# Altium footprint library QFN.PcbLib: 84 footprints (part 1 of 6)
Each footprint in its own frame and in the unit in brackets; x right, y up, seen from the top. Pads: shape width x height; smd on the part's side, far side on the other; paste and mask are expansions set on the pad; w line width, h text height; cw(c..) or ccw(c..) is an arc to the next point about the centre after c.
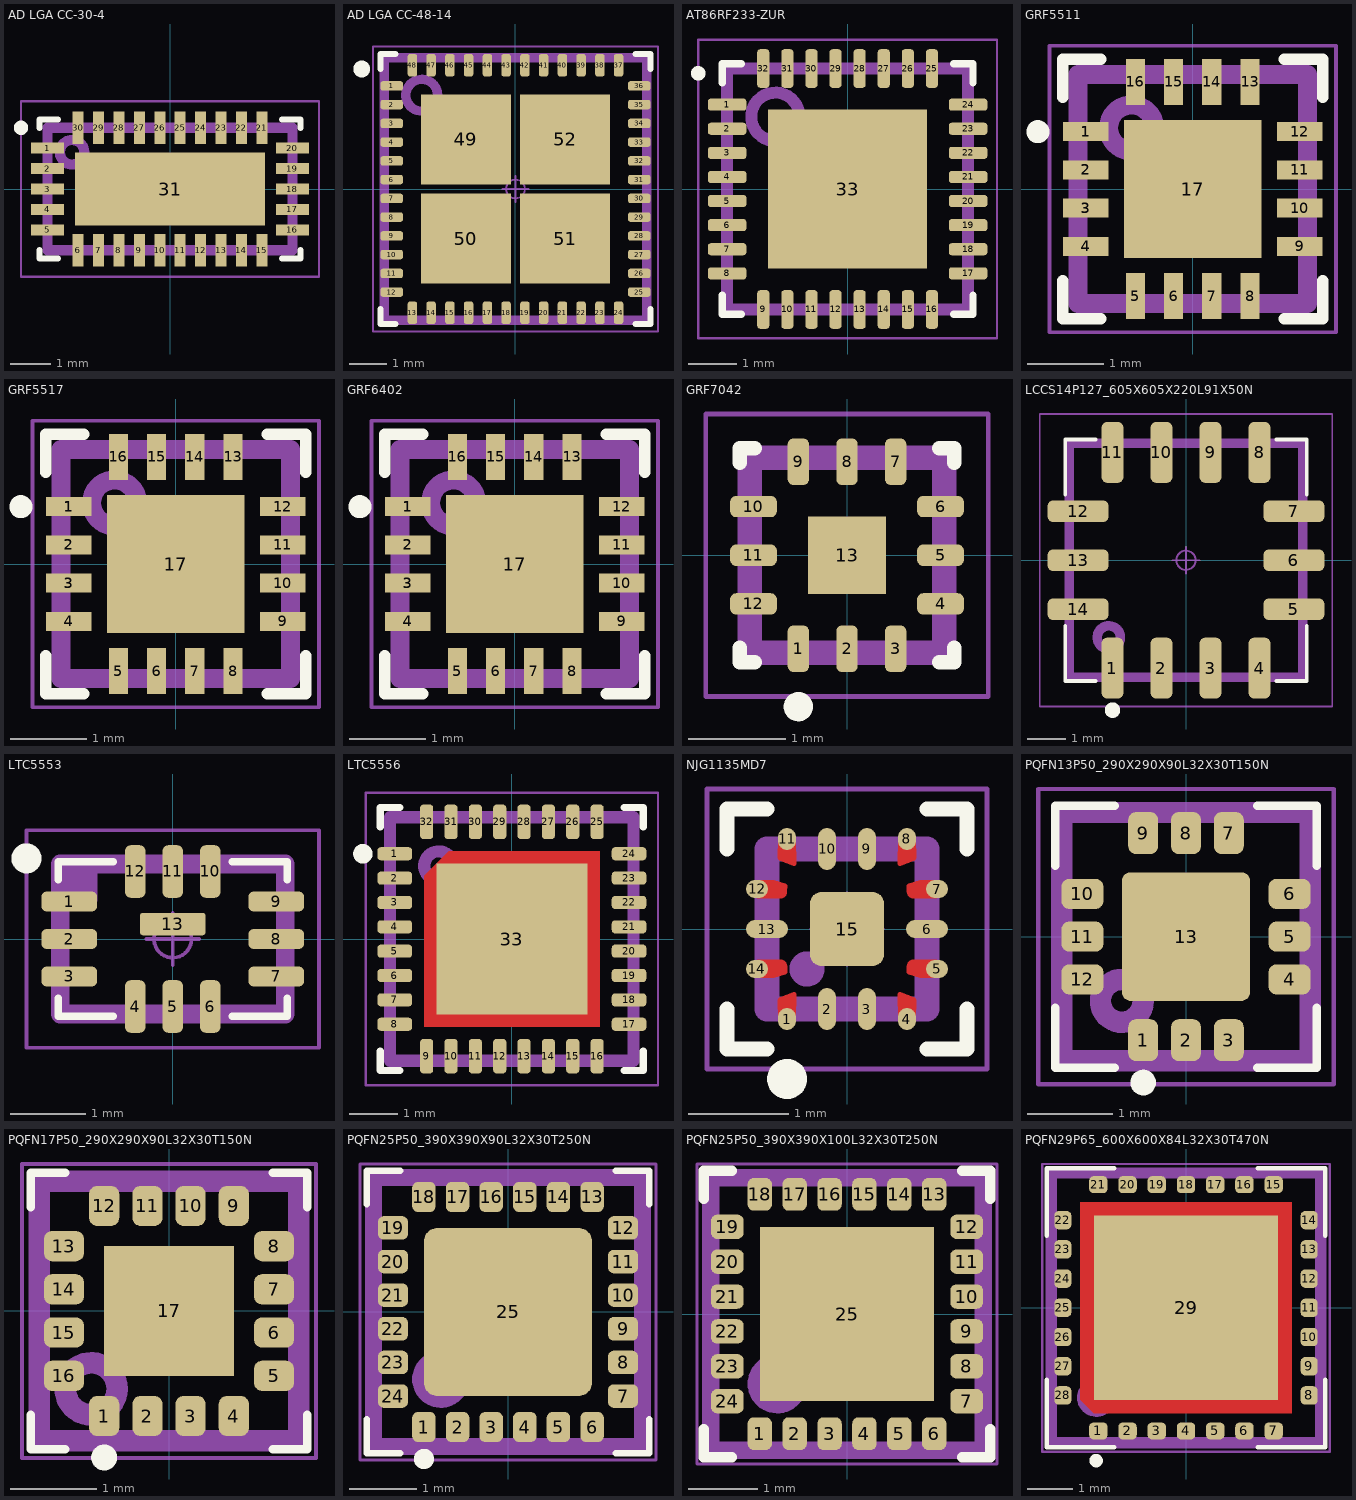
[diagram p0: the footprints below, top view; thin cyan lines are the x and y axes]

## AD LGA CC-30-4 [mm] "Analog Devices 30-Terminal Land Grid Array Package [LGA] (CC-30-4)"
height 0.95
pads (31):
  rect 0.8x0.27 smd: 1(-3,1) 2(-3,0.5) 3(-3,0) 4(-3,-0.5) 5(-3,-1) 16(3,-1) 17(3,-0.5) 18(3,0) 19(3,0.5) 20(3,1)
  rect 0.27x0.8 smd: 6(-2.25,-1.5) 7(-1.75,-1.5) 8(-1.25,-1.5) 9(-0.75,-1.5) 10(-0.25,-1.5) 11(0.25,-1.5) 12(0.75,-1.5) 13(1.25,-1.5) 14(1.75,-1.5) 15(2.25,-1.5) 21(2.25,1.5) 22(1.75,1.5) 23(1.25,1.5) 24(0.75,1.5) 25(0.25,1.5) 26(-0.25,1.5) 27(-0.75,1.5) 28(-1.25,1.5) 29(-1.75,1.5) 30(-2.25,1.5)
  rect 4.65x1.8 smd: 31(0,0)
Top Overlay:
  circle w0.25: c-3.65,1.5 r0.05
  lines w0.15: -3.2,-1.5 -3.2,-1.7 -2.75,-1.7 ; -3.2,1.5 -3.2,1.7 -2.75,1.7 ; 2.75,-1.7 3.2,-1.7 3.2,-1.5 ; 2.75,1.7 3.2,1.7 3.2,1.5
Top Assembly:
  circle w0.25: c-2.4,0.9 r0.3
  lines w0.25: -3,-1.5 3,-1.5 3,1.5 -3,1.5 -3,-1.5
  text ".Designator" at -3.378,-0.339 h1.5
Top Courtyard:
  circle w0.05: c0,0 r0.25
  lines w0.05: -0.35,0 0.35,0 ; 0,-0.35 0,0.35 ; -3.65,-2.15 3.65,-2.15 3.65,2.15 -3.65,2.15 -3.65,-2.15
3D body "AD LGA CC-30-4.STEP": height 0.89, standoff 0, extent -3,-1.5 3,1.5

## AD LGA CC-48-14 [mm] "48-Terminal Land Grid Array [LGA] (CC-48-14)"
height 0.95
pads (52):
  rrect50% 0.6x0.25 smd: 1(-3.3,2.75) 2(-3.3,2.25) 3(-3.3,1.75) 4(-3.3,1.25) 5(-3.3,0.75) 6(-3.3,0.25) 7(-3.3,-0.25) 8(-3.3,-0.75) 9(-3.3,-1.25) 10(-3.3,-1.75) 11(-3.3,-2.25) 12(-3.3,-2.75) 25(3.3,-2.75) 26(3.3,-2.25) 27(3.3,-1.75) 28(3.3,-1.25) 29(3.3,-0.75) 30(3.3,-0.25) 31(3.3,0.25) 32(3.3,0.75) 33(3.3,1.25) 34(3.3,1.75) 35(3.3,2.25) 36(3.3,2.75)
  rrect50% 0.25x0.6 smd: 13(-2.75,-3.3) 14(-2.25,-3.3) 15(-1.75,-3.3) 16(-1.25,-3.3) 17(-0.75,-3.3) 18(-0.25,-3.3) 19(0.25,-3.3) 20(0.75,-3.3) 21(1.25,-3.3) 22(1.75,-3.3) 23(2.25,-3.3) 24(2.75,-3.3) 37(2.75,3.3) 38(2.25,3.3) 39(1.75,3.3) 40(1.25,3.3) 41(0.75,3.3) 42(0.25,3.3) 43(-0.25,3.3) 44(-0.75,3.3) 45(-1.25,3.3) 46(-1.75,3.3) 47(-2.25,3.3) 48(-2.75,3.3)
  rect 2.4x2.4 smd: 49(-1.325,1.325) 50(-1.325,-1.325) 51(1.325,-1.325) 52(1.325,1.325)
Top Overlay:
  circle w0.25: c-4.1,3.2 r0.1
  lines w0.15: -3.6,-3.2 -3.6,-3.6 -3.2,-3.6 ; -3.6,3.2 -3.6,3.6 -3.2,3.6 ; 3.2,-3.6 3.6,-3.6 3.6,-3.2 ; 3.2,3.6 3.6,3.6 3.6,3.2
Top Assembly:
  circle w0.25: c-2.5,2.5 r0.424
  lines w0.25: -3.5,-3.5 3.5,-3.5 3.5,3.5 -3.5,3.5 -3.5,-3.5
  text ".Designator" at -3.378,-0.339 h1.5
Top Courtyard:
  circle w0.05: c0,0 r0.25
  lines w0.05: -0.35,0 0.35,0 ; 0,-0.35 0,0.35 ; -3.8,-3.8 3.8,-3.8 3.8,3.8 -3.8,3.8 -3.8,-3.8
3D body "AD LGA CC-48-14.STEP": height 0.95, standoff 0, extent -3.5,-3.5 3.5,3.5

## AT86RF233-ZUR [mm] "QFN, 32-Leads, Body 5.00x5.00mm, Pitch 0.50mm, Thermal Pad 3.30x3.30mm, IPC Medium Density"
height 1
pads (33):
  rrect50% 0.8x0.25 smd: 1(-2.5,1.75) 2(-2.5,1.25) 3(-2.5,0.75) 4(-2.5,0.25) 5(-2.5,-0.25) 6(-2.5,-0.75) 7(-2.5,-1.25) 8(-2.5,-1.75) 17(2.5,-1.75) 18(2.5,-1.25) 19(2.5,-0.75) 20(2.5,-0.25) 21(2.5,0.25) 22(2.5,0.75) 23(2.5,1.25) 24(2.5,1.75)
  rrect50% 0.25x0.8 smd: 9(-1.75,-2.5) 10(-1.25,-2.5) 11(-0.75,-2.5) 12(-0.25,-2.5) 13(0.25,-2.5) 14(0.75,-2.5) 15(1.25,-2.5) 16(1.75,-2.5) 25(1.75,2.5) 26(1.25,2.5) 27(0.75,2.5) 28(0.25,2.5) 29(-0.25,2.5) 30(-0.75,2.5) 31(-1.25,2.5) 32(-1.75,2.5)
  rect 3.3x3.3 smd: 33(0,0)
Top Overlay:
  circle w0.25: c-3.1,2.4 r0.025
  lines w0.15: -2.6,-2.2 -2.6,-2.6 -2.2,-2.6 ; -2.6,2.2 -2.6,2.6 -2.2,2.6 ; 2.2,-2.6 2.6,-2.6 2.6,-2.2 ; 2.2,2.6 2.6,2.6 2.6,2.2
Top Assembly:
  circle w0.25: c-1.5,1.5 r0.5
  lines w0.25: -2.5,-2.5 2.5,-2.5 2.5,2.5 -2.5,2.5 -2.5,-2.5
  text ".Designator" at -3.378,-0.339 h1.5
Top Courtyard:
  circle w0.05: c0,0 r0.25
  lines w0.05: -0.35,0 0.35,0 ; 0,-0.35 0,0.35 ; -3.1,-3.1 3.1,-3.1 3.1,3.1 -3.1,3.1 -3.1,-3.1
3D body "AT86RF233-ZUR.STEP": height 1, standoff 0, extent -2.55,-2.55 2.55,2.55

## GRF5511 [mm] "Guerrilla-RF 3.0 mm QFN-16"
height 0.9
pads (21):
  rect 0.6x0.25 smd: 1(-1.4,0.75) 1(-1.4,0.75) 2(-1.4,0.25) 2(-1.4,0.25) 3(-1.4,-0.25) 3(-1.4,-0.25) 4(-1.4,-0.75) 4(-1.4,-0.75) 9(1.4,-0.75) 10(1.4,-0.25) 11(1.4,0.25) 12(1.4,0.75)
  rect 0.25x0.6 smd: 5(-0.75,-1.4) 6(-0.25,-1.4) 7(0.25,-1.4) 8(0.75,-1.4) 13(0.75,1.4) 14(0.25,1.4) 15(-0.25,1.4) 16(-0.75,1.4)
  rect 1.8x1.8 smd: 17(0,0)
Top Overlay:
  circle w0.25: c-2.025,0.75 r0.025
  lines w0.15: -1.7,-1.2 -1.7,-1.7 -1.2,-1.7 ; -1.7,1.2 -1.7,1.7 -1.2,1.7 ; 1.2,-1.7 1.7,-1.7 1.7,-1.2 ; 1.2,1.7 1.7,1.7 1.7,1.2
Top Assembly:
  circle w0.25: c-0.8,0.8 r0.3
  lines w0.25: -1.5,-1.5 1.5,-1.5 1.5,1.5 -1.5,1.5 -1.5,-1.5
  text ".Designator" at -3.378,-0.339 h1.5
Top Courtyard:
  circle w0.05: c0,0 r0.25
  lines w0.05: -0.35,0 0.35,0 ; 0,-0.35 0,0.35 ; -1.875,-1.875 1.875,-1.875 1.875,1.875 -1.875,1.875 -1.875,-1.875
3D body "GRF5511.STEP": height 0.9, standoff 0, extent -1.55,-1.55 1.55,1.55

## GRF5517 [mm] "Guerrilla-RF 3.0 mm QFN-16"
height 0.9
pads (21):
  rect 0.6x0.25 smd: 1(-1.4,0.75) 1(-1.4,0.75) 2(-1.4,0.25) 2(-1.4,0.25) 3(-1.4,-0.25) 3(-1.4,-0.25) 4(-1.4,-0.75) 4(-1.4,-0.75) 9(1.4,-0.75) 10(1.4,-0.25) 11(1.4,0.25) 12(1.4,0.75)
  rect 0.25x0.6 smd: 5(-0.75,-1.4) 6(-0.25,-1.4) 7(0.25,-1.4) 8(0.75,-1.4) 13(0.75,1.4) 14(0.25,1.4) 15(-0.25,1.4) 16(-0.75,1.4)
  rect 1.8x1.8 smd: 17(0,0)
Top Overlay:
  circle w0.25: c-2.025,0.75 r0.025
  lines w0.15: -1.7,-1.2 -1.7,-1.7 -1.2,-1.7 ; -1.7,1.2 -1.7,1.7 -1.2,1.7 ; 1.2,-1.7 1.7,-1.7 1.7,-1.2 ; 1.2,1.7 1.7,1.7 1.7,1.2
Top Assembly:
  circle w0.25: c-0.8,0.8 r0.3
  lines w0.25: -1.5,-1.5 1.5,-1.5 1.5,1.5 -1.5,1.5 -1.5,-1.5
  text ".Designator" at -3.378,-0.339 h1.5
Top Courtyard:
  circle w0.05: c0,0 r0.25
  lines w0.05: -0.35,0 0.35,0 ; 0,-0.35 0,0.35 ; -1.875,-1.875 1.875,-1.875 1.875,1.875 -1.875,1.875 -1.875,-1.875
3D body "GRF5517.STEP": height 0.9, standoff 0, extent -1.55,-1.55 1.55,1.55

## GRF6402 [mm] "Guerrilla-RF 3.0 mm QFN-16"
height 0.9
pads (21):
  rect 0.6x0.25 smd: 1(-1.4,0.75) 1(-1.4,0.75) 2(-1.4,0.25) 2(-1.4,0.25) 3(-1.4,-0.25) 3(-1.4,-0.25) 4(-1.4,-0.75) 4(-1.4,-0.75) 9(1.4,-0.75) 10(1.4,-0.25) 11(1.4,0.25) 12(1.4,0.75)
  rect 0.25x0.6 smd: 5(-0.75,-1.4) 6(-0.25,-1.4) 7(0.25,-1.4) 8(0.75,-1.4) 13(0.75,1.4) 14(0.25,1.4) 15(-0.25,1.4) 16(-0.75,1.4)
  rect 1.8x1.8 smd: 17(0,0)
Top Overlay:
  circle w0.25: c-2.025,0.75 r0.025
  lines w0.15: -1.7,-1.2 -1.7,-1.7 -1.2,-1.7 ; -1.7,1.2 -1.7,1.7 -1.2,1.7 ; 1.2,-1.7 1.7,-1.7 1.7,-1.2 ; 1.2,1.7 1.7,1.7 1.7,1.2
Top Assembly:
  circle w0.25: c-0.8,0.8 r0.3
  lines w0.25: -1.5,-1.5 -1.5,1.5 1.5,1.5 1.5,-1.5 -1.5,-1.5
  text ".Designator" at -3.378,-0.339 h1.5
Top Courtyard:
  circle w0.05: c0,0 r0.25
  lines w0.05: -0.35,0 0.35,0 ; 0,-0.35 0,0.35 ; -1.875,-1.875 -1.875,1.875 1.875,1.875 1.875,-1.875 -1.875,-1.875
3D body "GRF6402.STEP": height 0.9, standoff 0, extent -1.55,-1.55 1.55,1.55

## GRF7042 [mm] "Quad Flat No-Lead (QFN with Tab), 0.50 mm pitch; square, 3 pin X 3 pin, 2.00 mm L X 2.00 mm W X 0.50 mm H body"
height 0.5
pads (13):
  rrect55% 0.22x0.48 smd: 1(-0.5,-0.96) 2(0,-0.96) 3(0.5,-0.96) 7(0.5,0.96) 8(0,0.96) 9(-0.5,0.96)
  rrect55% 0.48x0.22 smd: 4(0.96,-0.5) 5(0.96,0) 6(0.96,0.5) 10(-0.96,0.5) 11(-0.96,0) 12(-0.96,-0.5)
  rect 0.8x0.8 smd: 13(0,0)
Top Overlay:
  circle w0.15: c-0.5,-1.555 r0.075
  lines w0.15: -1.1,-0.95 -1.1,-1.1 -0.95,-1.1 ; -1.1,0.95 -1.1,1.1 -0.95,1.1 ; 0.95,-1.1 1.1,-1.1 1.1,-0.95 ; 0.95,1.1 1.1,1.1 1.1,0.95
Top Assembly:
  lines w0.25: -1,-1 1,-1 1,1 -1,1 -1,-1
  text ".Designator" at -3.378,1.661 h1.5
Top Courtyard:
  circle w0.05: c0,0 r0.25
  lines w0.05: -0.35,0 0.35,0 ; 0,-0.35 0,0.35 ; -1.45,-1.45 -1.45,1.45 1.45,1.45 1.45,-1.45 -1.45,-1.45
3D body "QFN13P50_200X200X50L30X20T80.STEP": height 0.5, standoff 0, extent -1.05,-1.05 1.05,1.05

## LCCS14P127_605X605X220L91X50N [mm] "Leadless Chip Carrier (LCC), 1.27 mm pitch; square, 4 pin X 3 pin, 6.05 mm L X 6.05 mm W X 2.20 mm H body"
height 2.2
pads (14):
  rrect50% 0.56x1.58 smd: 1(-1.905,-2.795) 2(-0.635,-2.795) 3(0.635,-2.795) 4(1.905,-2.795) 8(1.905,2.795) 9(0.635,2.795) 10(-0.635,2.795) 11(-1.905,2.795)
  rrect50% 1.58x0.56 smd: 5(2.795,-1.27) 6(2.795,0) 7(2.795,1.27) 12(-2.795,1.27) 13(-2.795,0) 14(-2.795,-1.27)
Top Overlay:
  circle w0.2: c-1.905,-3.885 r0.1
  lines w0.1: -3.13,-1.7 -3.13,-3.13 -2.34,-3.13 ; -3.13,1.7 -3.13,3.13 -2.34,3.13 ; 2.34,-3.13 3.13,-3.13 3.13,-1.7 ; 2.34,3.13 3.13,3.13 3.13,1.7
Top Assembly:
  circle w0.25: c-2,-2 r0.3
  lines w0.25: -3.03,-3.03 3.03,-3.03 3.03,3.03 -3.03,3.03 -3.03,-3.03
  text ".Designator" at -2.3,-0.3 h1.5
Top Courtyard:
  circle w0.05: c0,0 r0.25
  lines w0.05: -0.35,0 0.35,0 ; 0,-0.35 0,0.35 ; -3.79,-3.79 3.79,-3.79 3.79,3.79 -3.79,3.79 -3.79,-3.79
3D body "LCCS14P127_605X605X220L91X50.STEP": height 2.2, standoff 0, extent -3.025,-3.025 3.025,3.025

## LTC5553 [mm] "Quad Flat No-Lead (QFN), 0.50 mm pitch; rect., 3 pin X 3 pin, 3.00 mm L X 2.00 mm W X 0.80 mm H body"
height 0.8
pads (13):
  rrect52% 0.74x0.27 smd: 1(-1.38,0.5) 2(-1.38,0) 3(-1.38,-0.5) 7(1.38,-0.5) 8(1.38,0) 9(1.38,0.5)
  rrect52% 0.27x0.7 smd: 4(-0.5,-0.9) 5(0,-0.9) 6(0.5,-0.9) 10(0.5,0.9) 11(0,0.9) 12(-0.5,0.9)
  rrect23% 0.87x0.3 smd: 13(0,0.2)
Top Overlay:
  circle w0.2: c-1.95,1.075 r0.1
  lines w0.1: -1.53,-0.79 -1.53,-1.03 -0.79,-1.03 ; -1.53,0.79 -1.53,1.03 -0.79,1.03 ; 0.79,-1.03 1.53,-1.03 1.53,-0.79 ; 0.79,1.03 1.53,1.03 1.53,0.79
Top Assembly:
  rectangle: -1.5,0.5 -1,1
  lines w0.25: -1.5,-1 -1.5,1 1.5,1 1.5,-1 -1.5,-1
  text ".Designator" at -1.3,-0.4 h1.5
Top Courtyard:
  circle w0.05: c0,0 r0.25
  lines w0.05: -0.35,0 0.35,0 ; 0,-0.35 0,0.35 ; -1.95,-1.45 -1.95,1.45 1.95,1.45 1.95,-1.45 -1.95,-1.45
3D body "LTC5553.STEP": height 0.8, standoff 0, extent -1.55,-1.05 1.55,1.05

## LTC5556 [mm]
height 0.8
pads (33):
  rrect52% 0.71x0.27 smd: 1(-2.405,1.75) 2(-2.405,1.25) 3(-2.405,0.75) 4(-2.405,0.25) 5(-2.405,-0.25) 6(-2.405,-0.75) 7(-2.405,-1.25) 8(-2.405,-1.75) 17(2.405,-1.75) 18(2.405,-1.25) 19(2.405,-0.75) 20(2.405,-0.25) 21(2.405,0.25) 22(2.405,0.75) 23(2.405,1.25) 24(2.405,1.75)
  rrect52% 0.27x0.71 smd: 9(-1.75,-2.405) 10(-1.25,-2.405) 11(-0.75,-2.405) 12(-0.25,-2.405) 13(0.25,-2.405) 14(0.75,-2.405) 15(1.25,-2.405) 16(1.75,-2.405) 25(1.75,2.405) 26(1.25,2.405) 27(0.75,2.405) 28(0.25,2.405) 29(-0.25,2.405) 30(-0.75,2.405) 31(-1.25,2.405) 32(-1.75,2.405)
  rect 3.1x3.1 smd paste-3.1 mask-3.1: 33(0,0)
Top Layer:
  region: -1.8,-1.8 -1.8,1.3 -1.3,1.8 1.8,1.8 1.8,-1.8
Top Overlay:
  circle w0.2: c-3.06,1.75 r0.1
  lines w0.15: -2.7,-2.3 -2.7,-2.7 -2.3,-2.7 ; -2.7,2.3 -2.7,2.7 -2.3,2.7 ; 2.3,-2.7 2.7,-2.7 2.7,-2.3 ; 2.3,2.7 2.7,2.7 2.7,2.3
Top Paste:
  region: -1.49,-1.49 -1.49,-0.18 -0.18,-0.18 -0.18,-1.49
  region: 0.18,-1.49 0.18,-0.18 1.49,-0.18 1.49,-1.49
  region: -1.49,0.18 -1.49,1.49 -0.18,1.49 -0.18,0.18
  region: 0.18,0.18 0.18,1.49 1.49,1.49 1.49,0.18
Top Solder:
  region: -1.85,-1.85 -1.85,1.35 -1.35,1.85 1.85,1.85 1.85,-1.85
Top Assembly:
  circle w0.25: c-1.5,1.5 r0.3
  lines w0.25: -2.5,-2.5 2.5,-2.5 2.5,2.5 -2.5,2.5 -2.5,-2.5
  text ".Designator" at -2.3,-0.3 h1.5
Top Courtyard:
  circle w0.05: c0,0 r0.25
  lines w0.05: -0.35,0 0.35,0 ; 0,-0.35 0,0.35 ; -3,-3 3,-3 3,3 -3,3 -3,-3
3D body "QFN33P50_500X500X90L40X25T370.STEP": height 0.9, standoff 0, extent -2.55,-2.55 2.55,2.55

## NJG1135MD7 [mm]
height 0.4
pads (15):
  oval 0.18x0.22 smd: 1(-0.6,-0.9) 4(0.6,-0.9) 8(0.6,0.9) 11(-0.6,0.9)
  oval 0.18x0.42 smd: 2(-0.2,-0.8) 3(0.2,-0.8) 9(0.2,0.8) 10(-0.2,0.8)
  oval 0.22x0.18 smd: 5(0.9,-0.4) 7(0.9,0.4) 12(-0.9,0.4) 14(-0.9,-0.4)
  oval 0.42x0.18 smd: 6(0.8,0) 13(-0.8,0)
  rrect30% 0.74x0.74 smd: 15(0,0)
Top Layer:
  region: -0.51,0.9 -0.69,0.9 -0.69,0.714 -0.69,0.709 -0.687,0.699 -0.681,0.69 -0.672,0.683 -0.667,0.682 -0.538,0.634 -0.533,0.633 -0.523,0.634 -0.515,0.64 -0.51,0.649 -0.51,0.654
  region: 0.51,0.9 0.69,0.9 0.69,0.714 0.69,0.709 0.687,0.699 0.681,0.69 0.672,0.683 0.667,0.682 0.538,0.634 0.533,0.633 0.523,0.634 0.515,0.64 0.51,0.649 0.51,0.654
  region: -0.51,-0.9 -0.69,-0.9 -0.69,-0.714 -0.69,-0.709 -0.687,-0.699 -0.681,-0.69 -0.672,-0.683 -0.667,-0.682 -0.538,-0.634 -0.533,-0.633 -0.523,-0.634 -0.515,-0.64 -0.51,-0.649 -0.51,-0.654
  region: 0.51,-0.9 0.69,-0.9 0.69,-0.714 0.69,-0.709 0.687,-0.699 0.681,-0.69 0.672,-0.683 0.667,-0.682 0.538,-0.634 0.533,-0.633 0.523,-0.634 0.515,-0.64 0.51,-0.649 0.51,-0.654
  region: 0.9,0.31 0.9,0.49 0.725,0.49 0.613,0.454 0.61,0.453 0.605,0.45 0.602,0.445 0.6,0.439 0.6,0.436 0.6,0.37 0.6,0.358 0.609,0.336 0.626,0.319 0.648,0.31 0.66,0.31
  region: -0.9,-0.31 -0.9,-0.49 -0.725,-0.49 -0.613,-0.454 -0.61,-0.453 -0.605,-0.45 -0.602,-0.445 -0.6,-0.439 -0.6,-0.436 -0.6,-0.37 -0.6,-0.358 -0.609,-0.336 -0.626,-0.319 -0.648,-0.31 -0.66,-0.31
  region: 0.9,-0.31 0.9,-0.49 0.725,-0.49 0.613,-0.454 0.61,-0.453 0.605,-0.45 0.602,-0.445 0.6,-0.439 0.6,-0.436 0.6,-0.37 0.6,-0.358 0.609,-0.336 0.626,-0.319 0.648,-0.31 0.66,-0.31
  region: -0.9,0.31 -0.9,0.49 -0.725,0.49 -0.613,0.454 -0.61,0.453 -0.605,0.45 -0.602,0.445 -0.6,0.439 -0.6,0.436 -0.6,0.37 -0.6,0.358 -0.609,0.336 -0.626,0.319 -0.648,0.31 -0.66,0.31
Top Overlay:
  circle w0.2: c-0.6,-1.5 r0.1
  lines w0.15: -1.2,-0.8 -1.2,-1.2 -0.8,-1.2 ; -1.2,0.8 -1.2,1.2 -0.8,1.2 ; 0.8,-1.2 1.2,-1.2 1.2,-0.8 ; 0.8,1.2 1.2,1.2 1.2,0.8
Top Assembly:
  circle w0.25: c-0.4,-0.4 r0.05
  lines w0.25: -0.8,-0.8 -0.8,0.8 0.8,0.8 0.8,-0.8 -0.8,-0.8
  text ".Designator" at -2.1,1.2 h1.5
Top Courtyard:
  circle w0.05: c0,0 r0.25
  lines w0.05: -0.35,0 0.35,0 ; 0,-0.35 0,0.35 ; -1.4,-1.4 1.4,-1.4 1.4,1.4 -1.4,1.4 -1.4,-1.4
3D body "NJG1135MD7.STEP": height 0.4, standoff 0, extent -0.85,-0.85 0.85,0.85

## PQFN13P50_290X290X90L32X30T150N [mm] "Pullback Quad Flat No-Lead (PQFN with Tab), 0.50 mm pitch; square, 3 pin X 3 pin, 2.90 mm L X 2.90 mm W X 0.90 mm H body"
height 0.9
pads (13):
  rrect51% 0.35x0.49 smd: 1(-0.5,-1.21) 2(0,-1.21) 3(0.5,-1.21) 7(0.5,1.21) 8(0,1.21) 9(-0.5,1.21)
  rrect51% 0.49x0.35 smd: 4(1.21,-0.5) 5(1.21,0) 6(1.21,0.5) 10(-1.21,0.5) 11(-1.21,0) 12(-1.21,-0.5)
  rrect13% 1.5x1.5 smd paste-1.5: 13(0,0)
Top Overlay:
  circle w0.15: c-0.5,-1.705 r0.075
  lines w0.1: -1.53,-0.83 -1.53,-1.53 -0.83,-1.53 ; -1.53,0.83 -1.53,1.53 -0.83,1.53 ; 0.83,-1.53 1.53,-1.53 1.53,-0.83 ; 0.83,1.53 1.53,1.53 1.53,0.83
Top Paste:
  region: 0.64,-0.64 0.11,-0.64 0.11,-0.11 0.64,-0.11
  region: 0.64,0.11 0.11,0.11 0.11,0.64 0.64,0.64
  region: -0.11,-0.64 -0.64,-0.64 -0.64,-0.11 -0.11,-0.11
  region: -0.11,0.11 -0.64,0.11 -0.64,0.64 -0.11,0.64
Top Assembly:
  circle w0.25: c-0.75,-0.75 r0.25
  lines w0.25: -1.45,-1.45 -1.45,1.45 1.45,1.45 1.45,-1.45 -1.45,-1.45
  text ".Designator" at -1.8,1.9 h1.5
Top Courtyard:
  circle w0.05: c0,0 r0.25
  lines w0.05: -0.35,0 0.35,0 ; 0,-0.35 0,0.35 ; -1.725,-1.725 -1.725,1.725 1.725,1.725 1.725,-1.725 -1.725,-1.725
3D body "PQFN13P50_290X290X90L32X30T150.STEP": height 0.9, standoff 0, extent -1.45,-1.45 1.45,1.45

## PQFN17P50_290X290X90L32X30T150N [mm] "Pullback Quad Flat No-Lead (PQFN with Tab), 0.50 mm pitch; square, 4 pin X 4 pin, 2.90 mm L X 2.90 mm W X 0.90 mm H body"
height 0.9
pads (17):
  rrect51% 0.35x0.46 smd: 1(-0.75,-1.215) 2(-0.25,-1.215) 3(0.25,-1.215) 4(0.75,-1.215) 9(0.75,1.215) 10(0.25,1.215) 11(-0.25,1.215) 12(-0.75,1.215)
  rrect51% 0.46x0.35 smd: 5(1.215,-0.75) 6(1.215,-0.25) 7(1.215,0.25) 8(1.215,0.75) 13(-1.215,0.75) 14(-1.215,0.25) 15(-1.215,-0.25) 16(-1.215,-0.75)
  rect 1.5x1.5 smd paste-1.5: 17(0,0)
Top Overlay:
  circle w0.15: c-0.75,-1.695 r0.075
  lines w0.1: -1.6,-1.2 -1.6,-1.6 -1.2,-1.6 ; -1.6,1.2 -1.6,1.6 -1.2,1.6 ; 1.2,-1.6 1.6,-1.6 1.6,-1.2 ; 1.2,1.6 1.6,1.6 1.6,1.2
Top Paste:
  region: -0.11,0.11 -0.64,0.11 -0.64,0.64 -0.11,0.64
  region: -0.11,-0.64 -0.64,-0.64 -0.64,-0.11 -0.11,-0.11
  region: 0.64,0.11 0.11,0.11 0.11,0.64 0.64,0.64
  region: 0.64,-0.64 0.11,-0.64 0.11,-0.11 0.64,-0.11
Top Assembly:
  circle w0.25: c-0.9,-0.9 r0.3
  lines w0.25: -1.5,-1.5 1.5,-1.5 1.5,1.5 -1.5,1.5 -1.5,-1.5
  text ".Designator" at -1.3,-0.2 h1.5
Top Courtyard:
  circle w0.05: c0,0 r0.25
  lines w0.05: -0.35,0 0.35,0 ; 0,-0.35 0,0.35 ; -1.7,-1.7 1.7,-1.7 1.7,1.7 -1.7,1.7 -1.7,-1.7
3D body "PQFN17P50_290X290X90L32X30T150.STEP": height 0.9, standoff 0, extent -1.45,-1.45 1.45,1.45

## PQFN25P50_390X390X90L32X30T250N [mm] "Pullback Quad Flat No-Lead (PQFN with Tab), 0.50 mm pitch; square, 6 pin X 6 pin, 3.90 mm L X 3.90 mm W X 0.90 mm H body"
height 0.9
pads (25):
  rrect51% 0.35x0.45 smd: 1(-1.25,-1.71) 2(-0.75,-1.71) 3(-0.25,-1.71) 4(0.25,-1.71) 5(0.75,-1.71) 6(1.25,-1.71) 13(1.25,1.71) 14(0.75,1.71) 15(0.25,1.71) 16(-0.25,1.71) 17(-0.75,1.71) 18(-1.25,1.71)
  rrect51% 0.45x0.35 smd: 7(1.71,-1.25) 8(1.71,-0.75) 9(1.71,-0.25) 10(1.71,0.25) 11(1.71,0.75) 12(1.71,1.25) 19(-1.71,1.25) 20(-1.71,0.75) 21(-1.71,0.25) 22(-1.71,-0.25) 23(-1.71,-0.75) 24(-1.71,-1.25)
  rrect16% 2.5x2.5 smd paste-2.5: 25(0,0)
Top Overlay:
  circle w0.15: c-1.25,-2.185 r0.075
  lines w0.1: -2.1,-1.6 -2.1,-2.1 -1.6,-2.1 ; -2.1,1.6 -2.1,2.1 -1.6,2.1 ; 1.6,-2.1 2.1,-2.1 2.1,-1.6 ; 1.6,2.1 2.1,2.1 2.1,1.6
Top Paste:
  region: 1.065,-1.065 0.185,-1.065 0.185,-0.185 1.065,-0.185
  region: 1.065,0.185 0.185,0.185 0.185,1.065 1.065,1.065
  region: -0.185,-1.065 -1.065,-1.065 -1.065,-0.185 -0.185,-0.185
  region: -0.185,0.185 -1.065,0.185 -1.065,1.065 -0.185,1.065
Top Assembly:
  circle w0.25: c-1,-1 r0.3
  lines w0.25: -2,-2 -2,2 2,2 2,-2 -2,-2
  text ".Designator" at -1.7,-0.4 h1.5
Top Courtyard:
  circle w0.05: c0,0 r0.25
  lines w0.05: -0.35,0 0.35,0 ; 0,-0.35 0,0.35 ; -2.2,-2.2 -2.2,2.2 2.2,2.2 2.2,-2.2 -2.2,-2.2
3D body "PQFN25P50_390X390X90L32X30T250.STEP": height 0.9, standoff 0, extent -1.95,-1.95 1.95,1.95

## PQFN25P50_390X390X100L32X30T250N [mm] "Pullback Quad Flat No-Lead (PQFN with Tab), 0.50 mm pitch; square, 6 pin X 6 pin, 3.90 mm L X 3.90 mm W X 1.00 mm H body"
height 1
pads (25):
  rrect51% 0.35x0.47 smd: 1(-1.25,-1.715) 2(-0.75,-1.715) 3(-0.25,-1.715) 4(0.25,-1.715) 5(0.75,-1.715) 6(1.25,-1.715) 13(1.25,1.715) 14(0.75,1.715) 15(0.25,1.715) 16(-0.25,1.715) 17(-0.75,1.715) 18(-1.25,1.715)
  rrect51% 0.47x0.35 smd: 7(1.715,-1.25) 8(1.715,-0.75) 9(1.715,-0.25) 10(1.715,0.25) 11(1.715,0.75) 12(1.715,1.25) 19(-1.715,1.25) 20(-1.715,0.75) 21(-1.715,0.25) 22(-1.715,-0.25) 23(-1.715,-0.75) 24(-1.715,-1.25)
  rect 2.5x2.5 smd paste-2.5: 25(0,0)
Top Overlay:
  lines w0.15: -2.05,-1.65 -2.05,-2.05 -1.65,-2.05 ; -2.05,1.65 -2.05,2.05 -1.65,2.05 ; 1.65,-2.05 2.05,-2.05 2.05,-1.65 ; 1.65,2.05 2.05,2.05 2.05,1.65
Top Paste:
  region: -0.185,0.185 -1.065,0.185 -1.065,1.065 -0.185,1.065
  region: -0.185,-1.065 -1.065,-1.065 -1.065,-0.185 -0.185,-0.185
  region: 1.065,0.185 0.185,0.185 0.185,1.065 1.065,1.065
  region: 1.065,-1.065 0.185,-1.065 0.185,-0.185 1.065,-0.185
Top Assembly:
  circle w0.25: c-1,-1 r0.3
  lines w0.25: -1.95,-1.95 1.95,-1.95 1.95,1.95 -1.95,1.95 -1.95,-1.95
  text ".Designator" at 0,0 h1.5
Top Courtyard:
  circle w0.05: c0,0 r0.25
  lines w0.05: -0.35,0 0.35,0 ; 0,-0.35 0,0.35 ; -2.15,-2.15 2.15,-2.15 2.15,2.15 -2.15,2.15 -2.15,-2.15
3D body "PQFN25P50_390X390X100L32X30T250.STEP": height 1, standoff 0, extent -1.95,-1.95 1.95,1.95

## PQFN29P65_600X600X84L32X30T470N [mm] "Pullback Quad Flat No-Lead (PQFN with Tab), 0.65 mm pitch; square, 7 pin X 7 pin, 6.00 mm L X 6.00 mm W X 0.845 mm H body"
height 0.845
pads (29):
  rrect53% 0.41x0.38 smd: 1(-1.95,-2.74) 2(-1.3,-2.74) 3(-0.65,-2.74) 4(0,-2.74) 5(0.65,-2.74) 6(1.3,-2.74) 7(1.95,-2.74) 15(1.95,2.74) 16(1.3,2.74) 17(0.65,2.74) 18(0,2.74) 19(-0.65,2.74) 20(-1.3,2.74) 21(-1.95,2.74)
  rrect53% 0.38x0.41 smd: 8(2.74,-1.95) 9(2.74,-1.3) 10(2.74,-0.65) 11(2.74,0) 12(2.74,0.65) 13(2.74,1.3) 14(2.74,1.95) 22(-2.74,1.95) 23(-2.74,1.3) 24(-2.74,0.65) 25(-2.74,0) 26(-2.74,-0.65) 27(-2.74,-1.3) 28(-2.74,-1.95)
  rect 4.1x4.1 smd paste-4.1 mask-4.1: 29(0,0)
Top Layer:
  region: 2.35,-2.35 -2.05,-2.35 -2.35,-2.05 -2.35,2.35 2.35,2.35
Top Overlay:
  circle w0.15: c-2,-3.4 r0.075
  lines w0.1: -3.1,-1.6 -3.1,-3.1 -1.6,-3.1 ; -3.1,1.6 -3.1,3.1 -1.6,3.1 ; 1.6,-3.1 3.1,-3.1 3.1,-1.6 ; 1.6,3.1 3.1,3.1 3.1,1.6
Top Paste:
  region: -0.345,0.345 -2.005,0.345 -2.005,2.005 -0.345,2.005
  region: -0.345,-2.005 -2.005,-2.005 -2.005,-0.345 -0.345,-0.345
  region: 2.005,0.345 0.345,0.345 0.345,2.005 2.005,2.005
  region: 2.005,-2.005 0.345,-2.005 0.345,-0.345 2.005,-0.345
Top Solder:
  region: 2.35,-2.35 -2.05,-2.35 -2.35,-2.05 -2.35,2.35 2.35,2.35
Top Assembly:
  circle w0.25: c-2,-2 r0.3
  lines w0.25: -3,-3 3,-3 3,3 -3,3 -3,-3
  text ".Designator" at -2.7,-0.3 h1.5
Top Courtyard:
  circle w0.05: c0,0 r0.25
  lines w0.05: -0.35,0 0.35,0 ; 0,-0.35 0,0.35 ; -3.2,-3.2 3.2,-3.2 3.2,3.2 -3.2,3.2 -3.2,-3.2
3D body "PQFN29P65_600X600X84L32X30T470.STEP": height 0.84, standoff 0, extent -3,-3 3,3